# Altium footprint library Maypole_V1.2.PcbLib: 27 footprints (part 1 of 2)
Each footprint in its own frame and in the unit in brackets; x right, y up, seen from the top. Pads: shape width x height; smd on the part's side, far side on the other; paste and mask are expansions set on the pad; w line width, h text height; cw(c..) or ccw(c..) is an arc to the next point about the centre after c.
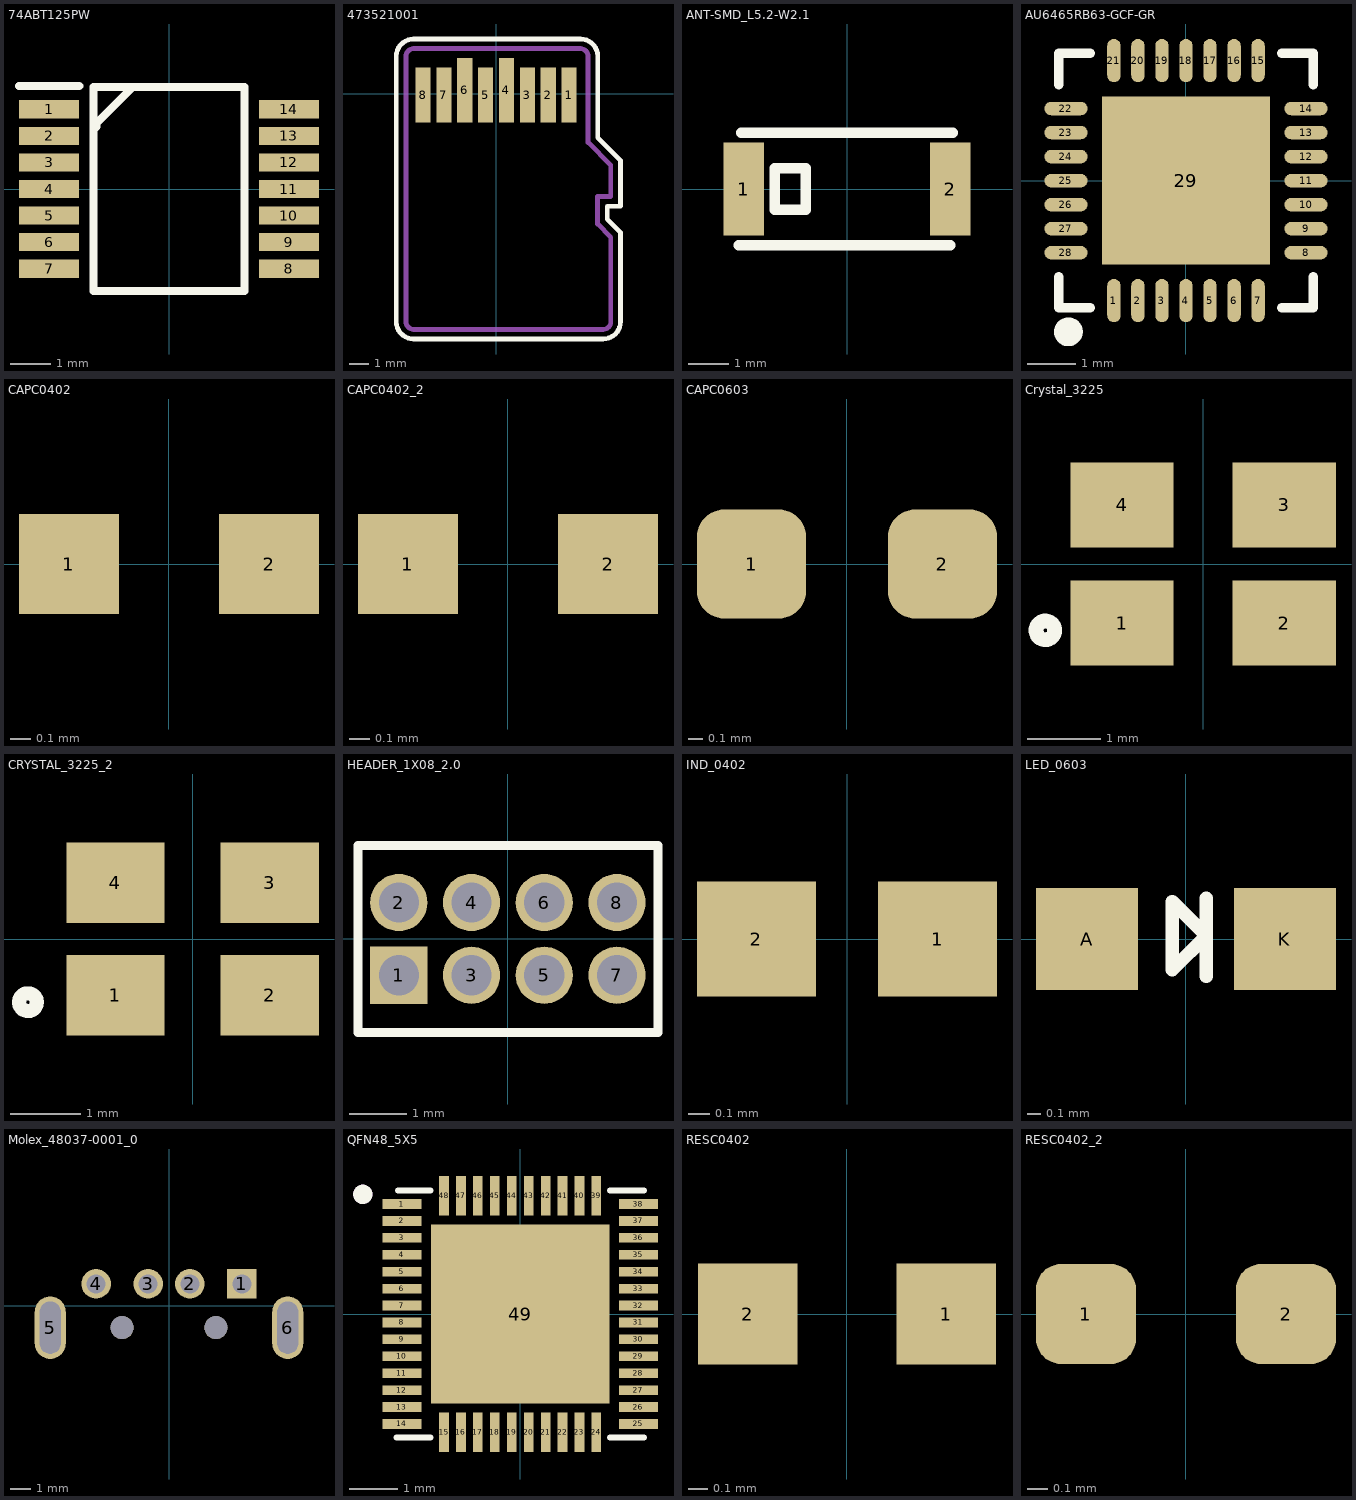
[diagram p0: the footprints below, top view; thin cyan lines are the x and y axes]

## 74ABT125PW [mm]
pads (14):
  rect 1.475x0.45 smd: 1(-2.938,1.95) 2(-2.938,1.3) 3(-2.938,0.65) 4(-2.938,0) 5(-2.938,-0.65) 6(-2.938,-1.3) 7(-2.938,-1.95) 8(2.938,-1.95) 9(2.938,-1.3) 10(2.938,-0.65) 11(2.938,0) 12(2.938,0.65) 13(2.938,1.3) 14(2.938,1.95)
Top Overlay:
  lines w0.2: -3.675,2.525 -2.2,2.525 ; -1.778,1.524 -1.778,1.611 -0.889,2.5 ; -1.85,-2.5 -1.85,2.5 1.85,2.5 1.85,-2.5 -1.85,-2.5
3D body "74ABT125PW,112.stp": height 1.1, standoff 0, extent -3.2,-2.5 3.2,2.5

## 473521001 [mm]
pads (8):
  rect 0.8x2.9 smd: 1(3.849,-0.075) 2(2.75,-0.075) 3(1.65,-0.075) 5(-0.55,-0.075) 7(-2.75,-0.075) 8(-3.849,-0.075)
  rect 0.8x3.4 smd: 4(0.55,0.175) 6(-1.65,0.175)
Top Overlay:
  lines w0.254: -5.257,-12.025 ccw(c-4.349,-12.025) -4.349,-12.933 5.651,-12.933 ccw(c5.651,-12.025) 6.559,-12.025 6.559,-7.312 5.859,-6.612 5.859,-5.933 6.559,-5.933 6.559,-5.425 6.559,-3.512 5.359,-2.312 5.359,1.975 ccw(c4.451,1.975) 4.451,2.883 -4.349,2.883 ccw(c-4.349,1.975) -5.257,1.975 -5.257,-12.025
Mechanical 1:
  lines w0.254: -4.749,-12.025 -4.742,-12.103 -4.719,-12.178 -4.682,-12.247 -4.632,-12.308 -4.572,-12.358 -4.502,-12.395 -4.427,-12.417 -4.349,-12.425 5.651,-12.425 5.729,-12.417 5.804,-12.395 5.873,-12.358 5.933,-12.308 5.983,-12.247 6.02,-12.178 6.043,-12.103 6.051,-12.025 6.051,-7.566 5.351,-6.866 5.351,-5.425 6.051,-5.425 6.051,-3.766 4.851,-2.566 4.851,1.975 4.843,2.053 4.82,2.128 4.783,2.197 4.733,2.258 4.673,2.308 4.604,2.345 4.529,2.367 4.451,2.375 -4.349,2.375 -4.427,2.367 -4.502,2.345 -4.572,2.308 -4.632,2.258 -4.682,2.197 -4.719,2.128 -4.742,2.053 -4.749,1.975 -4.749,-12.025
3D body "Micro SD Card.SLDPRT": height 1, standoff 0, extent -4.891,-12.571 6.109,2.429

## ANT-SMD_L5.2-W2.1 [mm]
pads (2):
  rect 1x2.3 smd: 1(-2.54,0) 2(2.54,0)
Top Overlay:
  lines w0.254: -2.66,-1.38 2.54,-1.38 ; -2.6,1.38 2.6,1.38 ; -1.778,-0.508 -1.778,0.508 -1.016,0.508 -1.016,-0.508 -1.778,-0.508
3D body: height 1, standoff 0, extent -2.602,-1.05 2.602,1.05

## AU6465RB63-GCF-GR [mm]
pads (29):
  oval 0.28x0.9 smd paste-100 mask+0.051: 1(-1.501,-2.5) 2(-1.001,-2.5) 3(-0.501,-2.5) 4(0,-2.5) 5(0.5,-2.5) 6(1.001,-2.5) 7(1.501,-2.5) 15(1.501,2.5) 16(1.001,2.5) 17(0.5,2.5) 18(0,2.5) 19(-0.501,2.5) 20(-1.001,2.5) 21(-1.501,2.5)
  oval 0.9x0.28 smd paste-100 mask+0.051: 8(2.5,-1.501) 9(2.5,-1.001) 10(2.5,-0.501) 11(2.5,0) 12(2.5,0.5) 13(2.5,1.001) 14(2.5,1.501) 22(-2.5,1.501) 23(-2.5,1.001) 24(-2.5,0.5) 25(-2.5,0) 26(-2.5,-0.501) 27(-2.5,-1.001) 28(-2.5,-1.501)
  rect 3.5x3.5 smd paste-100 mask+0.051: 29(0,0)
Top Overlay:
  lines w0.2: -2.65,-2 -2.65,-2.65 -2,-2.65 ; -2.65,2 -2.65,2.65 -2,2.65 ; 2,-2.65 2.65,-2.65 2.65,-2 ; 2,2.65 2.65,2.65 2.65,2
  lines w0.3: -2.451,-3 ccw(c-2.45,-3.15) -2.449,-3
Top Paste:
  drawing of 29 lines, arcs and shapes, not listed
3D body: height 0.8, standoff 0, extent -2.65,-2.65 2.65,2.65

## CAPC0402 [mm]
pads (2):
  rect 0.5x0.5 smd: 1(-0.5,0) 2(0.5,0)
3D body "CAPC1005X56N EIA 0402.step": height 0.56, standoff 0, extent -0.5,-0.25 0.5,0.25

## CAPC0402_2 [mm]
pads (2):
  rect 0.5x0.5 smd: 1(-0.5,0) 2(0.5,0)
3D body "CAPC1005X56N EIA 0402.step": height 0.56, standoff 0, extent -0.5,-0.25 0.5,0.25

## CAPC0603 [mil]
pads (2):
  rrect50% 30x30 smd: 1(-26.26,0) 2(26.26,0)
3D body "C0603_090.step": height 34.43, standoff -1, extent -30.84,-15.62 32.15,15.88

## Crystal_3225 [mm] "3225 pack"
pads (4):
  rect 1.4x1.15 smd: 1(-1.1,-0.8) 2(1.1,-0.8) 3(1.1,0.8) 4(-1.1,0.8)
Top Overlay:
  circle w0.2: c-2.14,-0.9 r0.127
3D body "User Library-tsx-3225.STEP": height 0.6, standoff 0, extent -1.6,-1.23 1.6,1.27

## CRYSTAL_3225_2 [mm]
pads (4):
  rect 1.4x1.15 smd: 1(-1.1,-0.8) 2(1.1,-0.8) 3(1.1,0.8) 4(-1.1,0.8)
Top Overlay:
  circle w0.2: c-2.346,-0.9 r0.127
3D body "User Library-tsx-3225.STEP": height 0.6, standoff 0, extent -1.6,-1.23 1.6,1.27

## HEADER_1X08_2.0 [mm]
pads (8):
  rect 1x1 hole 0.7 paste+0 mask+0.05: 1(-1.905,-0.635)
  round 1 hole 0.7 paste+0 mask+0.05: 2(-1.905,0.635) 3(-0.635,-0.635) 4(-0.635,0.635) 5(0.635,-0.635) 6(0.635,0.635) 7(1.905,-0.635) 8(1.905,0.635)
Top Overlay:
  lines w0.15: -2.618,-1.635 -2.618,1.632 2.621,1.632 2.621,-1.635 -2.618,-1.635
3D body "PBD1.27-8.step": height 4.4, standoff -2.3, extent -2.54,-1.55 2.54,1.55

## IND_0402 [mm]
pads (2):
  rect 0.55x0.53 smd: 1(0.419,0) 2(-0.419,0)
3D body "LQG15HN2N0S02D.STEP": height 0.55, standoff 0, extent -0.5,-0.25 0.5,0.25

## LED_0603 [mil]
pads (2):
  rect 30x30 smd: A(-29.02,0) K(29.02,0)
Top Overlay:
  lines w3.94: 6,-11 6,12 6,1 ; 6,1 -4,-9 -4,11 6,1
3D body "User Library-LED SMD0603.STEP": height 24.76, standoff -1.81, extent -32.48,-14.27 32.48,14.27

## Molex_48037-0001_0 [mm]
pads (8):
  rect 1.42x1.42 hole 0.92 paste-1000 mask+0: 1(3.5,1.05)
  round 1.42 hole 0.92 paste-1000 mask+0: 2(1,1.05) 3(-1,1.05) 4(-3.5,1.05)
  oval 1.5x3 hole 1 slot 2.5 at 90 deg paste-1000 mask+0: 5(-5.7,-1.05) 6(5.7,-1.05)
  round 1.1 hole 1.1 unplated paste-1000 mask+0: ""(-2.25,-1.05) ""(2.25,-1.05)
3D body "14380.x_t": height 3, standoff -2.8, extent -6.303,-18.763 6.303,1.162

## QFN48_5X5 [mm] "Esp32 dowd SoC"
pads (49):
  rect 0.81x0.2 smd: 1(-2.445,2.275) 2(-2.445,1.925) 3(-2.445,1.575) 4(-2.445,1.225) 5(-2.445,0.875) 6(-2.445,0.525) 7(-2.445,0.175) 8(-2.445,-0.175) 9(-2.445,-0.525) 10(-2.445,-0.875) 11(-2.445,-1.225) 12(-2.445,-1.575) 13(-2.445,-1.925) 14(-2.445,-2.275) 25(2.445,-2.275) 26(2.445,-1.925) 27(2.445,-1.575) 28(2.445,-1.225) 29(2.445,-0.875) 30(2.445,-0.525) 31(2.445,-0.175) 32(2.445,0.175) 33(2.445,0.525) 34(2.445,0.875) 35(2.445,1.225) 36(2.445,1.575) 37(2.445,1.925) 38(2.445,2.275)
  rect 0.2x0.81 smd: 15(-1.575,-2.445) 16(-1.225,-2.445) 17(-0.875,-2.445) 18(-0.525,-2.445) 19(-0.175,-2.445) 20(0.175,-2.445) 21(0.525,-2.445) 22(0.875,-2.445) 23(1.225,-2.445) 24(1.575,-2.445) 39(1.575,2.445) 40(1.225,2.445) 41(0.875,2.445) 42(0.525,2.445) 43(0.175,2.445) 44(-0.175,2.445) 45(-0.525,2.445) 46(-0.875,2.445) 47(-1.225,2.445) 48(-1.575,2.445)
  rect 3.7x3.7 smd paste-3: 49(0,0)
Top Overlay:
  circle w0.2: c-3.255,2.475 r0.1
  lines w0.127: -2.555,-2.555 -1.86,-2.555 ; -2.53,2.555 -1.86,2.555 ; 1.86,-2.555 2.555,-2.555 ; 1.86,2.555 2.555,2.555
Top Paste:
  region: 1.395,0.225 0.225,0.225 0.225,1.395 1.395,1.395
  region: -0.225,0.225 -1.398,0.225 -1.398,1.395 -0.225,1.395
  region: -0.225,-1.395 -1.395,-1.395 -1.395,-0.225 -0.225,-0.225
  region: 1.395,-1.397 0.225,-1.397 0.225,-0.225 1.395,-0.225
Top Assembly:
  circle w0.2: c-3.255,2.475 r0.1
3D body "ESP32-D0WD--3DModel-STEP-56544.STEP": height 0.9, standoff 0, extent -2.5,-2.5 2.5,2.5

## RESC0402 [mm]
pads (2):
  rect 0.5x0.508 smd: 1(0.5,0) 2(-0.5,0)
3D body "R0402.step": height 0.4, standoff 0, extent -0.5,-0.25 0.5,0.25

## RESC0402_2 [mm]
pads (2):
  rrect50% 0.5x0.5 smd: 1(-0.5,0) 2(0.5,0)
3D body "R0402.step": height 0.4, standoff 0, extent -0.5,-0.25 0.5,0.25